# EAGLE library part TXB0104 (library 3DRobotics_Master_Library)
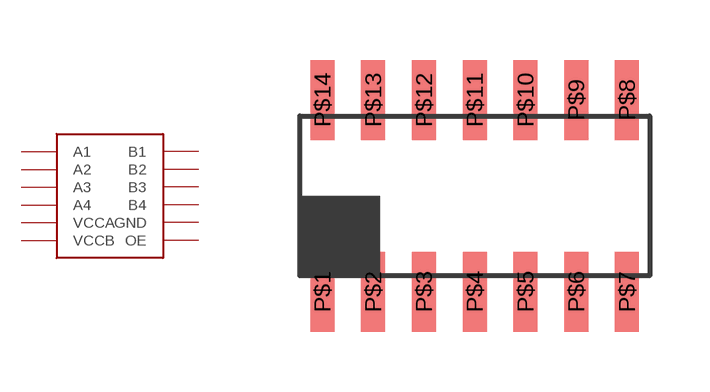
[diagram p15: symbol with the pads of TXB0104; footprint TXB0104]

Designator prefix -

## TXB0104 (DATASHEET: http://focus.ti.com/lit/ds/symlink/txb0104.pdf; LINK: http://search.digikey.com/scripts/DkSearch/dksus.dll?Detail&name=296-21928-1-ND; MFGPN: TXB0104DR; PN: 296-21928-1-ND)  [TXB0104]
P$1  VCCA
P$2  A1
P$3  A2
P$4  A3
P$5  A4
P$7  GND
P$8  OE
P$10  B4
P$11  B3
P$12  B2
P$13  B1
P$14  VCCB

## Footprint TXB0104 (pad centres in mm)
smd 0.6 x 2: P$1 0.565,-0.4; P$2 1.835,-0.4; P$3 3.105,-0.4; P$4 4.375,-0.4; P$5 5.645,-0.4; P$6 6.915,-0.4; P$7 8.185,-0.4; P$8 8.185,4.4; P$9 6.915,4.4; P$10 5.645,4.4; P$11 4.375,4.4; P$12 3.105,4.4; P$13 1.835,4.4; P$14 0.565,4.4